# Altium footprint library Pcblib_20110825.Pcblib: 407 footprints (part 8 of 26)
Each footprint in its own frame and in the unit in brackets; x right, y up, seen from the top. Pads: shape width x height; smd on the part's side, far side on the other; paste and mask are expansions set on the pad; w line width, h text height; cw(c..) or ccw(c..) is an arc to the next point about the centre after c.
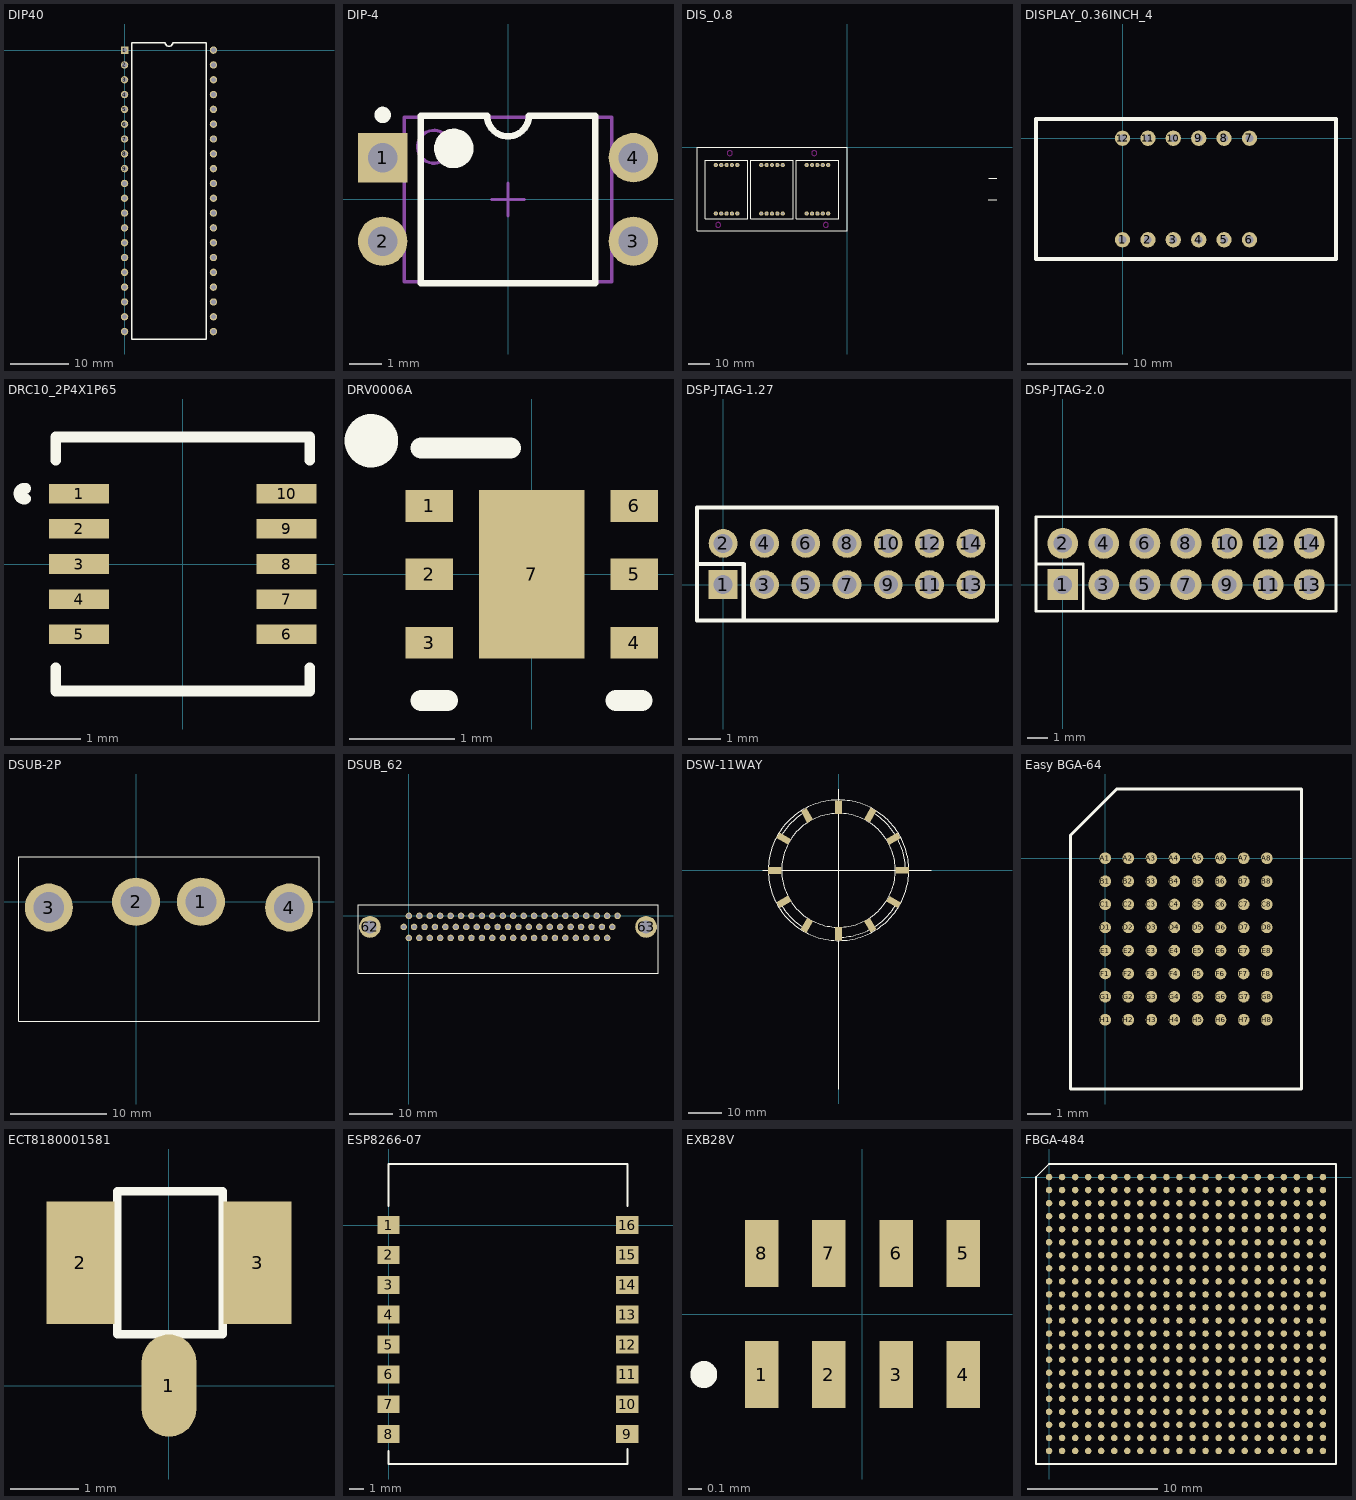
[diagram p7: the footprints below, top view; thin cyan lines are the x and y axes]

## DIP40 [mil]
pads (40):
  rect 50x50 hole 32: 1(0,0)
  round 50 hole 32: 2(0,-100) 3(0,-200) 4(0,-300) 5(0,-400) 6(0,-500) 7(0,-600) 8(0,-700) 9(0,-800) 10(0,-900) 11(0,-1000) 12(0,-1100) 13(0,-1200) 14(0,-1300) 15(0,-1400) 16(0,-1500) 17(0,-1600) 18(0,-1700) 19(0,-1800) 20(0,-1900) 21(600,-1900) 22(600,-1800) 23(600,-1700) 24(600,-1600) 25(600,-1500) 26(600,-1400) 27(600,-1300) 28(600,-1200) 29(600,-1100) 30(600,-1000) 31(600,-900) 32(600,-800) 33(600,-700) 34(600,-600) 35(600,-500) 36(600,-400) 37(600,-300) 38(600,-200) 39(600,-100) 40(600,0)
TopOverlay:
  lines w10: 50,-1950 550,-1950 550,50 325,50 cw(c300,50) 275,50 50,50 50,-1950

## DIP-4 [mm] "DIP; 4 Leads; Row Spacing 7.62 mm; Pitch 2.54 mm"
height 5.6
pads (4):
  rect 1.5x1.5 hole 0.9: 1(-3.81,1.27)
  round 1.5 hole 0.9: 2(-3.81,-1.27) 3(3.81,-1.27) 4(3.81,1.27)
TopOverlay:
  circle w0.25: c-3.81,2.57 r0.125
  circle w0.6: c-1.65,1.55 r0.3
  lines w0.2: -2.65,-2.55 -2.65,2.55 -0.635,2.55 ccw(c0,2.55) 0.635,2.55 2.65,2.55 2.65,-2.55 -2.65,-2.55
Mechanical13:
  circle w0.1: c-2.25,1.6 r0.5
  lines w0.1: -3.15,-2.5 -3.15,2.5 3.15,2.5 3.15,-2.5 -3.15,-2.5
Mechanical15:
  lines w0.1: -0.5,0 0.5,0 ; 0,-0.5 0,0.5
3D body: height 5.6, standoff 0, extent -3.15,-2.5 3.15,2.5

## DIS_0.8 [mm]
pads (30):
  round 2 hole 1: 1(-62.08,-31.4) 2(-59.54,-31.4) 3(-54.46,-31.4) 4(-51.92,-31.4) 5(-40.58,-31.4) 6(-38.04,-31.4) 7(-32.96,-31.4) 8(-30.42,-31.4) 9(-19.08,-31.4) 10(-16.54,-31.4) 11(-57,-31.4) 11(-57,-8.4) 12(-35.5,-31.4) 12(-35.5,-8.4) 13(-14,-31.4) 13(-14,-8.4) 14(-11.46,-31.4) 15(-8.92,-31.4) 16(-8.92,-8.4) 17(-11.46,-8.4) 18(-16.54,-8.4) 19(-19.08,-8.4) 20(-30.42,-8.4) 21(-32.96,-8.4) 22(-38.04,-8.4) 23(-40.58,-8.4) 24(-51.92,-8.4) 25(-54.46,-8.4) 26(-59.54,-8.4) 27(-62.08,-8.4)
TopOverlay:
  lines w0.381: 66.911,-24.841 71,-24.841 ; 67,-14.7 71,-14.7
  lines w0.5: -71,-39.5 -71,0 0,0 0,-39.5 -71,-39.5 ; -67,-33.75 -47,-33.75 -47,-6.05 -67,-6.05 -67,-33.75 ; -45.5,-33.75 -45.5,-6.05 -25.5,-6.05 -25.5,-33.75 -45.5,-33.75 ; -24,-33.75 -24,-6.05 -4,-6.05 -4,-33.75 -24,-33.75
KeepOutLayer:
  circle w0.254: c-15.5,-2.75 r1.2
  circle w0.254: c-55.5,-2.75 r1.2
  circle w0.254: c-10,-36.75 r1.2
  circle w0.254: c-61,-36.75 r1.2

## DISPLAY_0.36INCH_4 [mil]
pads (12):
  round 60 hole 30: 1(0,-400) 2(100,-400) 3(200,-400) 4(300,-400) 5(400,-400) 6(500,-400) 7(500,0) 8(400,0) 9(300,0) 10(200,0) 11(100,0) 12(0,0)
TopOverlay:
  lines w15: -340.55,-475.59 840.55,-475.59 840.55,75.59 -340.55,75.59 -340.55,-475.59

## DRC10_2P4X1P65 [mm]
pads (10):
  rect 0.85x0.28 smd paste-0.14: 1(-1.475,1) 2(-1.475,0.5) 3(-1.475,0) 4(-1.475,-0.5) 5(-1.475,-1) 6(1.475,-1) 7(1.475,-0.5) 8(1.475,0) 9(1.475,0.5) 10(1.475,1)
TopOverlay:
  lines w0.152: -2.233,0.926 cw(c-2.252,1) -2.233,1.074 ; -1.804,-1.473 -1.804,-1.804 1.804,-1.804 1.804,-1.473 ; -1.804,1.473 -1.804,1.804 1.804,1.804 1.804,1.473
TopPaste:
  region: 1.865,1.105 1.085,1.105 1.085,0.895 1.865,0.895
  region: 1.865,0.605 1.085,0.605 1.085,0.395 1.865,0.395
  region: 1.865,0.105 1.085,0.105 1.085,-0.105 1.865,-0.105
  region: 1.865,-0.395 1.085,-0.395 1.085,-0.605 1.865,-0.605
  region: 1.865,-0.895 1.085,-0.895 1.085,-1.105 1.865,-1.105
  region: -1.085,-0.895 -1.865,-0.895 -1.865,-1.105 -1.085,-1.105
  region: -1.085,-0.395 -1.865,-0.395 -1.865,-0.605 -1.085,-0.605
  region: -1.085,0.105 -1.865,0.105 -1.865,-0.105 -1.085,-0.105
  region: -1.085,0.605 -1.865,0.605 -1.865,0.395 -1.085,0.395
  region: -1.085,1.105 -1.865,1.105 -1.865,0.895 -1.085,0.895
TopSolder:
  region: 1.935,1.175 1.015,1.175 1.015,0.825 1.935,0.825
  region: 1.935,0.675 1.015,0.675 1.015,0.325 1.935,0.325
  region: 1.935,0.175 1.015,0.175 1.015,-0.175 1.935,-0.175
  region: 1.935,-0.325 1.015,-0.325 1.015,-0.675 1.935,-0.675
  region: 1.935,-0.825 1.015,-0.825 1.015,-1.175 1.935,-1.175
  region: -1.015,-0.825 -1.935,-0.825 -1.935,-1.175 -1.015,-1.175
  region: -1.015,-0.325 -1.935,-0.325 -1.935,-0.675 -1.015,-0.675
  region: -1.015,0.175 -1.935,0.175 -1.935,-0.175 -1.015,-0.175
  region: -1.015,0.675 -1.935,0.675 -1.935,0.325 -1.015,0.325
  region: -1.015,1.175 -1.935,1.175 -1.935,0.825 -1.015,0.825

## DRV0006A [mm]
pads (7):
  rect 0.45x0.3 smd paste-0.102 mask+0.051: 1(-0.975,0.65) 2(-0.975,0) 3(-0.975,-0.65) 4(0.975,-0.65) 5(0.975,0) 6(0.975,0.65)
  rect 1x1.6 smd paste-0.5 mask+0.051: 7(0,0)
TopOverlay:
  circle w0.254: c-1.524,1.27 r0.127
  lines w0.2: -1.05,-1.2 -0.8,-1.2 ; -1.05,1.2 -0.2,1.2 ; 0.8,-1.2 1.05,-1.2
TopPaste:
  region: -0.474,-0.733 0.475,-0.733 0.475,0.733 -0.474,0.733

## DSP-JTAG-1.27 [mil]
pads (14):
  rect 35x35 hole 23 unplated: 1(0,0)
  round 35 hole 23 unplated: 2(0,50) 3(50,0) 4(50,50) 5(100,0) 6(100,50) 7(150,0) 8(150,50) 9(200,0) 10(200,50) 11(250,0) 12(250,50) 13(300,0) 14(300,50)
TopOverlay:
  lines w5: -31.69,25 25,25 25,-43.31 ; -31.69,-43.31 331.69,-43.31 331.69,93.31 -31.69,93.31 -31.69,-43.31

## DSP-JTAG-2.0 [mm]
pads (14):
  rect 1.5x1.5 hole 0.9: 1(0,0)
  round 1.5 hole 0.9: 2(0,2) 3(2,0) 4(2,2) 5(4,0) 6(4,2) 7(6,0) 8(6,2) 9(8,0) 10(8,2) 11(10,0) 12(10,2) 13(12,0) 14(12,2)
TopOverlay:
  lines w0.127: -1.3,1 1,1 1,-1.3 ; -1.3,-1.3 -1.3,3.3 13.3,3.3 13.3,-1.3 -1.3,-1.3

## DSUB-2P [mm]
pads (4):
  round 5 hole 3.2 unplated: 1(6.75,0) 2(0,0) 3(-9.07,-0.6) 4(15.93,-0.6)
TopOverlay:
  lines w0.127: -12.17,-12.45 -12.17,4.699 19.03,4.699 19.03,-12.45 -12.17,-12.45

## DSUB_62 [mm]
pads (64):
  round 1.5 hole 1 unplated: 1(0,0) 2(2.4,0) 3(4.8,0) 4(7.2,0) 5(9.6,0) 6(12,0) 7(14.4,0) 8(16.8,0) 9(19.2,0) 10(21.6,0) 11(24,0) 12(26.4,0) 13(28.8,0) 14(31.2,0) 15(33.6,0) 16(36,0) 17(38.4,0) 18(40.8,0) 19(43.2,0) 20(45.6,0) 21(48,0) 22(-1.2,-2.54) 23(1.2,-2.54) 24(3.6,-2.54) 25(6,-2.54) 26(8.4,-2.54) 27(10.8,-2.54) 28(13.2,-2.54) 29(15.6,-2.54) 30(18,-2.54) 31(20.4,-2.54) 32(22.8,-2.54) 33(25.2,-2.54) 34(27.6,-2.54) 35(30,-2.54) 36(32.4,-2.54) 37(34.8,-2.54) 38(37.2,-2.54) 39(39.6,-2.54) 40(42,-2.54) 41(44.4,-2.54) 42(46.8,-2.54) 43(0,-5.08) 44(2.4,-5.08) 45(4.8,-5.08) 46(7.2,-5.08) 47(9.6,-5.08) 48(12,-5.08) 49(14.4,-5.08) 50(16.8,-5.08) 51(19.2,-5.08) 52(21.6,-5.08) 53(24,-5.08) 54(26.4,-5.08) 55(28.8,-5.08) 56(31.2,-5.08) 57(33.6,-5.08) 58(36,-5.08) 59(38.4,-5.08) 60(40.8,-5.08) 61(43.2,-5.08) 62(45.6,-5.08)
  round 5 hole 3 unplated: 62(-8.95,-2.54) 63(54.55,-2.54)
TopOverlay:
  lines w0.127: -11.7,-13.2 -11.7,2.565 57.3,2.565 57.3,-13.2 -11.7,-13.2

## DSW-11WAY [mm]
pads (12):
  rect 4x2 smd rot 30: 1(16.358,9.449) 8(-16.307,-9.398)
  rect 4x2 smd: 2(19.025,0) 7(-19.025,-0.051)
  rect 4x2 smd rot 60: 3(9.5,16.51) 9(-9.525,-16.485)
  rect 2x4 smd: 4(0,18.872) 10(0,-18.948)
  rect 4x2 smd rot 120: 5(-9.449,16.383) 11(9.474,-16.434)
  rect 4x2 smd rot 150: 6(-16.434,9.5) 12(16.434,-9.474)
TopOverlay:
  circle w0.254: c0,0 r21
  circle w0.254: c0,0 r17
  lines w0.254: -22.606,0 27.661,0 ; -17.346,-10 ccw(c-0.025,0) -10.025,-17.321 ; -17.321,10 cw(c0,0) -10,17.321 ; 0,-65.354 0,24.282 ; 0,-20 ccw(c0,0) 10,-17.321 ccw(c0,0) 17.321,-10 ; 10,17.321 cw(c0,0) 17.321,10 cw(c0,0) 20,0

## Easy BGA-64 [mm]
pads (64):
  round 0.5 smd: A1(0,0) A2(1,0) A3(2,0) A4(3,0) A5(4,0) A6(5,0) A7(6,0) A8(7,0) B1(0,-1) B2(1,-1) B3(2,-1) B4(3,-1) B5(4,-1) B6(5,-1) B7(6,-1) B8(7,-1) C1(0,-2) C2(1,-2) C3(2,-2) C4(3,-2) C5(4,-2) C6(5,-2) C7(6,-2) C8(7,-2) D1(0,-3) D2(1,-3) D3(2,-3) D4(3,-3) D5(4,-3) D6(5,-3) D7(6,-3) D8(7,-3) E1(0,-4) E2(1,-4) E3(2,-4) E4(3,-4) E5(4,-4) E6(5,-4) E7(6,-4) E8(7,-4) F1(0,-5) F2(1,-5) F3(2,-5) F4(3,-5) F5(4,-5) F6(5,-5) F7(6,-5) F8(7,-5) G1(0,-6) G2(1,-6) G3(2,-6) G4(3,-6) G5(4,-6) G6(5,-6) G7(6,-6) G8(7,-6) H1(0,-7) H2(1,-7) H3(2,-7) H4(3,-7) H5(4,-7) H6(5,-7) H7(6,-7) H8(7,-7)
TopOverlay:
  lines w0.127: -1.5,-10 8.5,-10 8.5,3 0.5,3 -1.5,1 -1.5,-10

## ECT8180001581 [mm]
pads (3):
  oval 0.8x1.5 smd: 1(0,0)
  rect 1x1.8 smd: 2(-1.3,1.8) 3(1.3,1.8)
TopOverlay:
  lines w0.127: -0.759,0.753 -0.759,2.85 0.788,2.85 0.788,0.753 -0.759,0.753

## ESP8266-07 [mm]
pads (16):
  rect 1.5x1.2 smd: 1(0,0) 2(0,-2) 3(0,-4) 4(0,-6) 5(0,-8) 6(0,-10) 7(0,-12) 8(0,-14) 9(16,-14) 10(16,-12) 11(16.002,-10) 12(16,-8) 13(16,-6) 14(16,-4) 15(16,-2) 16(16,0)
TopOverlay:
  lines w0.127: 0,-15.113 0,-16.002 16.002,-16.002 16.002,-14.986 ; 0,1.27 0,4.093 16.002,4.093 16.002,1.27

## EXB28V [mm] "Chip Resistor Array, (0402x4); SM; 8 Leads; Body 2.10 x 1.10 mm (LxW max)"
height 0.45
pads (8):
  rect 0.25x0.5 smd: 1(-0.75,-0.45) 2(-0.25,-0.45) 3(0.25,-0.45) 4(0.75,-0.45) 5(0.75,0.45) 6(0.25,0.45) 7(-0.25,0.45) 8(-0.75,0.45)
TopOverlay:
  circle w0.1: c-1.18,-0.45 r0.05

## FBGA-484 [mm]
pads (484):
  round 0.5 smd: A1(0,0) A2(1,0) A3(2,0) A4(3,0) A5(4,0) A6(5,0) A7(6,0) A8(7,0) A9(8,0) A10(9,0) A11(10,0) A12(11,0) A13(12,0) A14(13,0) A15(14,0) A16(15,0) A17(16,0) A18(17,0) A19(18,0) A20(19,0) A21(20,0) A22(21,0) AA1(0,-20) AA2(1,-20) AA3(2,-20) AA4(3,-20) AA5(4,-20) AA6(5,-20) AA7(6,-20) AA8(7,-20) AA9(8,-20) AA10(9,-20) AA11(10,-20) AA12(11,-20) AA13(12,-20) AA14(13,-20) AA15(14,-20) AA16(15,-20) AA17(16,-20) AA18(17,-20) AA19(18,-20) AA20(19,-20) AA21(20,-20) AA22(21,-20) AB1(0,-21) AB2(1,-21) AB3(2,-21) AB4(3,-21) AB5(4,-21) AB6(5,-21) AB7(6,-21) AB8(7,-21) AB9(8,-21) AB10(9,-21) AB11(10,-21) AB12(11,-21) AB13(12,-21) AB14(13,-21) AB15(14,-21) AB16(15,-21) AB17(16,-21) AB18(17,-21) AB19(18,-21) AB20(19,-21) AB21(20,-21) AB22(21,-21) B1(0,-1) B2(1,-1) B3(2,-1) B4(3,-1) B5(4,-1) B6(5,-1) B7(6,-1) B8(7,-1) B9(8,-1) B10(9,-1) B11(10,-1) B12(11,-1) B13(12,-1) B14(13,-1) B15(14,-1) B16(15,-1) B17(16,-1) B18(17,-1) B19(18,-1) B20(19,-1) B21(20,-1) B22(21,-1) C1(0,-2) C2(1,-2) C3(2,-2) C4(3,-2) C5(4,-2) C6(5,-2) C7(6,-2) C8(7,-2) C9(8,-2) C10(9,-2) C11(10,-2) C12(11,-2) C13(12,-2) C14(13,-2) C15(14,-2) C16(15,-2) C17(16,-2) C18(17,-2) C19(18,-2) C20(19,-2) C21(20,-2) C22(21,-2) D1(0,-3) D2(1,-3) D3(2,-3) D4(3,-3) D5(4,-3) D6(5,-3) D7(6,-3) D8(7,-3) D9(8,-3) D10(9,-3) D11(10,-3) D12(11,-3) D13(12,-3) D14(13,-3) D15(14,-3) D16(15,-3) D17(16,-3) D18(17,-3) D19(18,-3) D20(19,-3) D21(20,-3) D22(21,-3) E1(0,-4) E2(1,-4) E3(2,-4) E4(3,-4) E5(4,-4) E6(5,-4) E7(6,-4) E8(7,-4) E9(8,-4) E10(9,-4) E11(10,-4) E12(11,-4) E13(12,-4) E14(13,-4) E15(14,-4) E16(15,-4) E17(16,-4) E18(17,-4) E19(18,-4) E20(19,-4) E21(20,-4) E22(21,-4) F1(0,-5) F2(1,-5) F3(2,-5) F4(3,-5) F5(4,-5) F6(5,-5) F7(6,-5) F8(7,-5) F9(8,-5) F10(9,-5) F11(10,-5) F12(11,-5) F13(12,-5) F14(13,-5) F15(14,-5) F16(15,-5) F17(16,-5) F18(17,-5) F19(18,-5) F20(19,-5) F21(20,-5) F22(21,-5) G1(0,-6) G2(1,-6) G3(2,-6) G4(3,-6) G5(4,-6) G6(5,-6) G7(6,-6) G8(7,-6) G9(8,-6) G10(9,-6) G11(10,-6) G12(11,-6) G13(12,-6) G14(13,-6) G15(14,-6) G16(15,-6) G17(16,-6) G18(17,-6) G19(18,-6) G20(19,-6) G21(20,-6) G22(21,-6) H1(0,-7) H2(1,-7) H3(2,-7) H4(3,-7) H5(4,-7) H6(5,-7) H7(6,-7) H8(7,-7) H9(8,-7) H10(9,-7) H11(10,-7) H12(11,-7) H13(12,-7) H14(13,-7) H15(14,-7) H16(15,-7) H17(16,-7) H18(17,-7) H19(18,-7) H20(19,-7) H21(20,-7) H22(21,-7) J1(0,-8) J2(1,-8) J3(2,-8) J4(3,-8) J5(4,-8) J6(5,-8) J7(6,-8) J8(7,-8) J9(8,-8) J10(9,-8) J11(10,-8) J12(11,-8) J13(12,-8) J14(13,-8) J15(14,-8) J16(15,-8) J17(16,-8) J18(17,-8) J19(18,-8) J20(19,-8) J21(20,-8) J22(21,-8) K1(0,-9) K2(1,-9) K3(2,-9) K4(3,-9) K5(4,-9) K6(5,-9) K7(6,-9) K8(7,-9) K9(8,-9) K10(9,-9) K11(10,-9) K12(11,-9) K13(12,-9) K14(13,-9) K15(14,-9) K16(15,-9) K17(16,-9) K18(17,-9) K19(18,-9) K20(19,-9) K21(20,-9) K22(21,-9) L1(0,-10) L2(1,-10) L3(2,-10) L4(3,-10) L5(4,-10) L6(5,-10) L7(6,-10) L8(7,-10) L9(8,-10) L10(9,-10) L11(10,-10) L12(11,-10) L13(12,-10) L14(13,-10) L15(14,-10) L16(15,-10) L17(16,-10) L18(17,-10) L19(18,-10) L20(19,-10) L21(20,-10) L22(21,-10) M1(0,-11) M2(1,-11) M3(2,-11) M4(3,-11) M5(4,-11) M6(5,-11) M7(6,-11) M8(7,-11) M9(8,-11) M10(9,-11) M11(10,-11) M12(11,-11) M13(12,-11) M14(13,-11) M15(14,-11) M16(15,-11) M17(16,-11) M18(17,-11) M19(18,-11) M20(19,-11) M21(20,-11) M22(21,-11) N1(0,-12) N2(1,-12) N3(2,-12) N4(3,-12) N5(4,-12) N6(5,-12) N7(6,-12) N8(7,-12) N9(8,-12) N10(9,-12) N11(10,-12) N12(11,-12) N13(12,-12) N14(13,-12) N15(14,-12) N16(15,-12) N17(16,-12) N18(17,-12) N19(18,-12) N20(19,-12) N21(20,-12) N22(21,-12) P1(0,-13) P2(1,-13) P3(2,-13) P4(3,-13) P5(4,-13) P6(5,-13) P7(6,-13) P8(7,-13) P9(8,-13) P10(9,-13) P11(10,-13) P12(11,-13) P13(12,-13) P14(13,-13) P15(14,-13) P16(15,-13) P17(16,-13) P18(17,-13) P19(18,-13) P20(19,-13) P21(20,-13) P22(21,-13) R1(0,-14) R2(1,-14) R3(2,-14) R4(3,-14) R5(4,-14) R6(5,-14) R7(6,-14) R8(7,-14) R9(8,-14) R10(9,-14) R11(10,-14) R12(11,-14) R13(12,-14) R14(13,-14) R15(14,-14) R16(15,-14) R17(16,-14) R18(17,-14) R19(18,-14) R20(19,-14) R21(20,-14) R22(21,-14) T1(0,-15) T2(1,-15) T3(2,-15) T4(3,-15) T5(4,-15) T6(5,-15) T7(6,-15) T8(7,-15) T9(8,-15) T10(9,-15) T11(10,-15) T12(11,-15) T13(12,-15) T14(13,-15) T15(14,-15) T16(15,-15) T17(16,-15) T18(17,-15) T19(18,-15) T20(19,-15) T21(20,-15) T22(21,-15) U1(0,-16) U2(1,-16) U3(2,-16) U4(3,-16) U5(4,-16) U6(5,-16) U7(6,-16) U8(7,-16) U9(8,-16) U10(9,-16) U11(10,-16) U12(11,-16) U13(12,-16) U14(13,-16) U15(14,-16) U16(15,-16) U17(16,-16) U18(17,-16) U19(18,-16) U20(19,-16) U21(20,-16) U22(21,-16) V1(0,-17) V2(1,-17) V3(2,-17) V4(3,-17) V5(4,-17) V6(5,-17) V7(6,-17) V8(7,-17) V9(8,-17) V10(9,-17) V11(10,-17) V12(11,-17) V13(12,-17) V14(13,-17) V15(14,-17) V16(15,-17) V17(16,-17) V18(17,-17) V19(18,-17) V20(19,-17) V21(20,-17) V22(21,-17) W1(0,-18) W2(1,-18) W3(2,-18) W4(3,-18) W5(4,-18) W6(5,-18) W7(6,-18) W8(7,-18) W9(8,-18) W10(9,-18) W11(10,-18) W12(11,-18) W13(12,-18) W14(13,-18) W15(14,-18) W16(15,-18) W17(16,-18) W18(17,-18) W19(18,-18) W20(19,-18) W21(20,-18) W22(21,-18) Y1(0,-19) Y2(1,-19) Y3(2,-19) Y4(3,-19) Y5(4,-19) Y6(5,-19) Y7(6,-19) Y8(7,-19) Y9(8,-19) Y10(9,-19) Y11(10,-19) Y12(11,-19) Y13(12,-19) Y14(13,-19) Y15(14,-19) Y16(15,-19) Y17(16,-19) Y18(17,-19) Y19(18,-19) Y20(19,-19) Y21(20,-19) Y22(21,-19)
TopOverlay:
  lines w0.127: -1,-22 -1,0 0,1 22,1 22,-22 -1,-22